# Altium footprint library Battery_Management.PcbLib: 6 footprints
Each footprint in its own frame and in the unit in brackets; x right, y up, seen from the top. Pads: shape width x height; smd on the part's side, far side on the other; paste and mask are expansions set on the pad; w line width, h text height; cw(c..) or ccw(c..) is an arc to the next point about the centre after c.
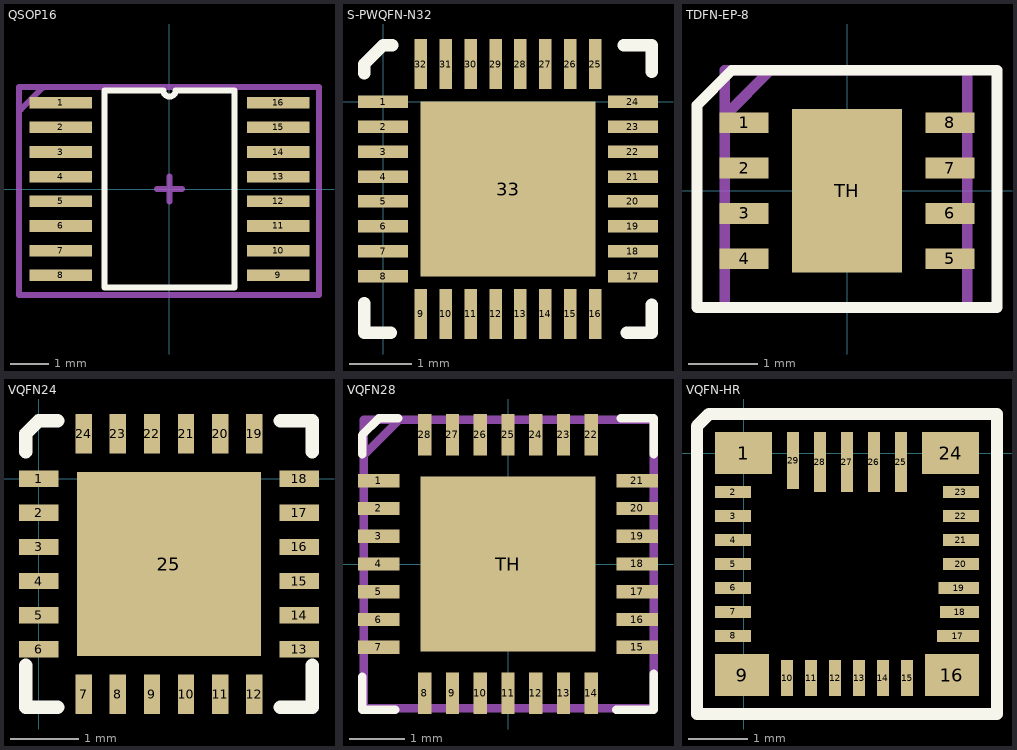
[diagram p0: the footprints below, top view; thin cyan lines are the x and y axes]

## QSOP16 [mm]
pads (16):
  rect 1.6x0.3 smd: 1(-2.8,2.222) 2(-2.8,1.587) 3(-2.8,0.953) 4(-2.8,0.318) 5(-2.8,-0.318) 6(-2.8,-0.953) 7(-2.8,-1.587) 8(-2.8,-2.222) 9(2.8,-2.222) 10(2.8,-1.587) 11(2.8,-0.953) 12(2.8,-0.318) 13(2.8,0.318) 14(2.8,0.953) 15(2.8,1.587) 16(2.8,2.222)
Top Overlay:
  lines w0.153: -1.675,-2.54 -1.675,2.54 -0.159,2.54 ccw(c0,2.54) 0.159,2.54 1.675,2.54 1.675,-2.54 -1.675,-2.54
Top Assembly:
  lines w0.153: -3.875,-2.725 3.85,-2.725 3.85,2.625 -3.875,2.625 -3.875,-2.725
  text "'.Designator'" at -3.897,2.945 h0.8
Mechanical 15:
  lines w0.153: -3.825,2.05 -3.275,2.6 ; -0.325,0 0.325,0 ; 0,-0.325 0,0.325 ; -3.875,-2.725 3.85,-2.725 3.85,2.625 -3.875,2.625 -3.875,-2.725
3D body "QSOP16-1.STEP": height 1.75, standoff -0.01, extent -3.1,-2.49 3.1,2.49

## S-PWQFN-N32 [mm]
pads (33):
  rect 0.8x0.2 smd: 1(0,0) 2(0,-0.4) 3(0,-0.8) 4(0,-1.2) 5(0,-1.6) 6(0,-2) 7(0,-2.4) 8(0,-2.8) 17(4,-2.8) 18(4,-2.4) 19(4,-2) 20(4,-1.6) 21(4,-1.2) 22(4,-0.8) 23(4,-0.4) 24(4,0)
  rect 0.2x0.8 smd: 9(0.6,-3.4) 10(1,-3.4) 11(1.4,-3.4) 12(1.8,-3.4) 13(2.2,-3.4) 14(2.6,-3.4) 15(3,-3.4) 16(3.4,-3.4) 25(3.4,0.6) 26(3,0.6) 27(2.6,0.6) 28(2.2,0.6) 29(1.8,0.6) 30(1.4,0.6) 31(1,0.6) 32(0.6,0.6)
  rect 2.8x2.8 smd: 33(2,-1.4)
Top Overlay:
  lines w0.2: -0.3,-3.225 -0.3,-3.7 0.125,-3.7 ; -0.3,0.45 -0.3,0.6 0,0.9 0.15,0.9 ; 3.85,0.9 4.3,0.9 4.3,0.475 ; 3.9,-3.7 4.3,-3.7 4.3,-3.25

## TDFN-EP-8 [mm]
pads (9):
  rect 0.7x0.3 smd: 1(-1.475,0.975) 2(-1.475,0.325) 3(-1.475,-0.325) 4(-1.475,-0.975) 5(1.475,-0.975) 6(1.475,-0.325) 7(1.475,0.325) 8(1.475,0.975)
  rect 1.58x2.35 smd: TH(0,0)
Top Overlay:
  lines w0.153: -2.15,-1.673 2.15,-1.673 2.15,1.725 -1.65,1.725 -2.15,1.225 -2.15,-1.673
Top Assembly:
  lines w0.153: -1.725,1.1 -1.1,1.725 ; -1.75,-1.675 1.725,-1.675 1.725,1.725 -1.75,1.725 -1.75,-1.675
  text "'.Designator'" at -1.647,2.045 h0.8
Mechanical 15:
  lines w0.153: -1.725,1.1 -1.1,1.725 ; -0.425,0 0.425,0 ; 0,-0.425 0,0.425 ; -1.75,-1.675 -1.75,1.725 1.725,1.725 1.725,-1.675 -1.75,-1.675
3D body "MAX1507ETA+.STEP": height 0.8, standoff 0, extent -1.5,-1.5 1.5,1.5

## VQFN24 [mm]
pads (25):
  rect 0.58x0.24 smd: 1(0,0) 2(0,-0.5) 3(0,-1) 4(0,-1.5) 5(0,-2) 6(0,-2.5) 13(3.825,-2.5) 14(3.825,-2) 15(3.825,-1.5) 16(3.825,-1) 17(3.825,-0.5) 18(3.825,0)
  rect 0.24x0.58 smd: 7(0.663,-3.162) 8(1.162,-3.162) 9(1.662,-3.162) 10(2.162,-3.162) 11(2.662,-3.162) 12(3.162,-3.162) 19(3.162,0.663) 20(2.662,0.663) 21(2.162,0.663) 22(1.662,0.663) 23(1.162,0.663) 24(0.663,0.663)
  rect 2.7x2.7 smd: 25(1.912,-1.25)
Top Overlay:
  lines w0.2: -0.19,-2.74 -0.19,-3.352 0.275,-3.352 ; -0.19,0.4 -0.19,0.663 0,0.853 0.275,0.853 ; 3.55,-3.352 4.015,-3.352 4.015,-2.74 ; 3.55,0.853 4.015,0.853 4.015,0.4

## VQFN28 [mm]
pads (29):
  rect 0.75x0.24 smd: 1(-2.325,1.5) 2(-2.325,1) 3(-2.325,0.5) 4(-2.325,0) 5(-2.325,-0.5) 6(-2.325,-1) 7(-2.325,-1.5) 15(2.325,-1.5) 16(2.325,-1) 17(2.325,-0.5) 18(2.325,0) 19(2.325,0.5) 20(2.325,1) 21(2.325,1.5)
  rect 0.24x0.75 smd: 8(-1.5,-2.325) 9(-1,-2.325) 10(-0.5,-2.325) 11(0,-2.325) 12(0.5,-2.325) 13(1,-2.325) 14(1.5,-2.325) 22(1.5,2.325) 23(1,2.325) 24(0.5,2.325) 25(0,2.325) 26(-0.5,2.325) 27(-1,2.325) 28(-1.5,2.325)
  rect 3.15x3.15 smd: TH(0,0)
Top Overlay:
  lines w0.153: -2.627,1.975 -2.627,2.322 -2.325,2.623 -1.975,2.623 ; -2.623,-2.025 -2.623,-2.623 -2.025,-2.623 ; 1.95,-2.623 2.623,-2.623 2.623,-1.975 ; 2.025,2.623 2.623,2.623 2.623,1.975
Top Assembly:
  lines w0.153: -2.6,-2.575 -2.6,2.6 2.625,2.6 2.625,-2.575 2.6,-2.6 -2.575,-2.6
Mechanical 15:
  lines w0.153: -2.6,-2.575 -2.6,2.6 2.625,2.6 2.625,-2.575 2.6,-2.6 -2.575,-2.6 ; -2.6,1.95 -1.95,2.6 -1.7,2.6 ; -0.4,0 0.4,0 ; 0,-0.4 0,0.4
3D body "QFN28_5x5.step": height 0.95, standoff 0, extent -2.6,-2.6 2.6,2.6

## VQFN-HR [mm]
pads (29):
  rect 0.95x0.7 smd: 1(0,0) 24(3.45,0)
  rect 0.6x0.2 smd: 2(-0.175,-0.65) 3(-0.175,-1.05) 4(-0.175,-1.45) 5(-0.175,-1.85) 6(-0.175,-2.25) 7(-0.175,-2.65) 8(-0.175,-3.05) 20(3.625,-1.85) 21(3.625,-1.45) 22(3.625,-1.05) 23(3.625,-0.65)
  rect 0.9x0.7 smd: 9(-0.025,-3.7) 16(3.475,-3.7)
  rect 0.2x0.6 smd: 10(0.725,-3.75) 11(1.125,-3.75) 12(1.525,-3.75) 13(1.925,-3.75) 14(2.325,-3.75) 15(2.725,-3.75)
  rect 0.7x0.2 smd: 17(3.575,-3.05)
  rect 0.65x0.2 smd: 18(3.6,-2.65)
  rect 0.68x0.2 smd: 19(3.588,-2.25)
  rect 0.2x1 smd: 25(2.625,-0.15) 26(2.175,-0.15) 27(1.725,-0.15) 28(1.275,-0.15)
  rect 0.2x0.95 smd: 29(0.825,-0.125)
Top Overlay:
  lines w0.2: -0.775,0.425 -0.775,-4.35 4.225,-4.35 4.225,0.65 -0.575,0.65 -0.775,0.45